# Altium footprint library PSK5D9.PcbLib: 1 footprints
Each footprint in its own frame and in the unit in brackets; x right, y up, seen from the top. Pads: shape width x height; smd on the part's side, far side on the other; paste and mask are expansions set on the pad; w line width, h text height; cw(c..) or ccw(c..) is an arc to the next point about the centre after c.
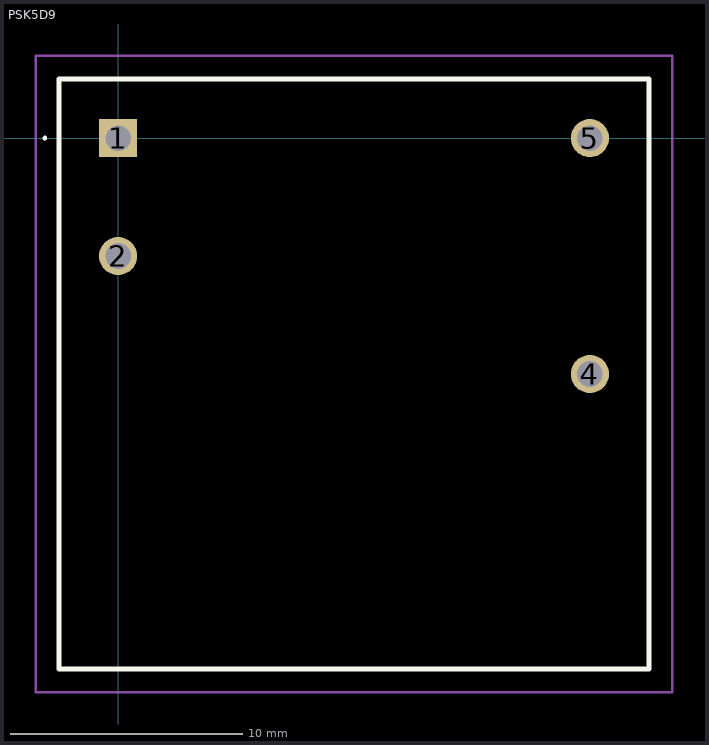
[diagram p0: the footprint, top view; thin cyan lines are the x and y axes]

## PSK5D9 [mm]
pads (4):
  rect 1.65x1.65 hole 1.1: 1(0,0)
  round 1.65 hole 1.1: 2(0,-5.08) 4(20.32,-10.16) 5(20.32,0)
Top Overlay:
  lines w0.1: -3.2,0 -3.2,0 ; -3.2,0 ccw(c-3.15,0) -3.1,0 ; -3.2,0 cw(c-3.15,0) -3.1,0 ; -3.1,0 -3.1,0
  lines w0.2: -2.54,-22.86 22.86,-22.86 22.86,2.54 -2.54,2.54 -2.54,-22.86
Mechanical 15:
  lines w0.1: -2.54,-22.86 22.86,-22.86 22.86,2.54 -2.54,2.54 -2.54,-22.86
Mechanical 20:
  lines w0.1: -3.54,-23.86 23.86,-23.86 23.86,3.54 -3.54,3.54 -3.54,-23.86